# EAGLE library part BU5004-RG (library densikit)
8x8 Dot-Maxtrix BU5004-RG Akizukidensi I-00889 <http://akizukidenshi.com/catalog/g/gI-00889/> 200YEN
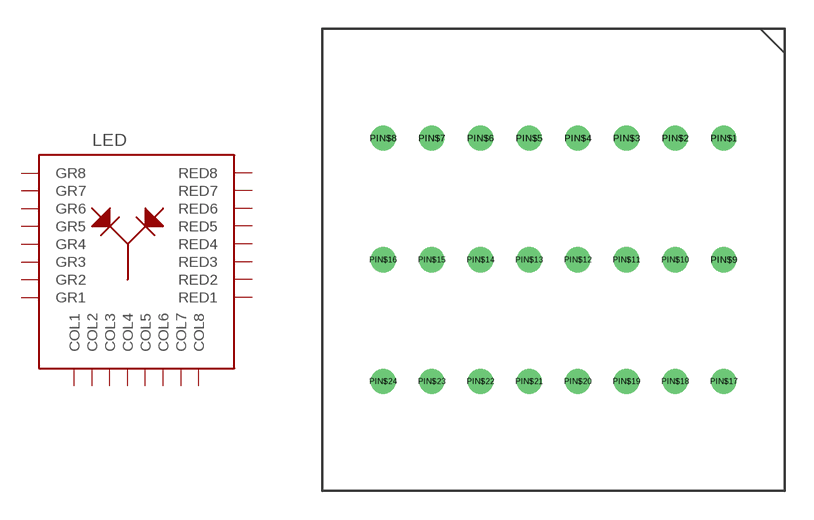
[diagram p3: symbol with the pads of LED_8X8_RG; footprint LED_8X8_RG]

Designator prefix LED

## BU5004-RG  [LED_8X8_RG]
PIN$1  GR2  pas
PIN$2  COL4  pas
PIN$3  COL3  pas
PIN$4  COL2  pas
PIN$5  GR5  pas
PIN$6  GR6  pas
PIN$7  COL1  pas
PIN$8  GR8  pas
PIN$9  RED1  pas
PIN$10  RED2  pas
PIN$11  RED3  pas
PIN$12  RED4  pas
PIN$13  RED5  pas
PIN$14  RED6  pas
PIN$15  RED7  pas
PIN$16  RED8  pas
PIN$17  GR1  pas
PIN$18  COL8  pas
PIN$19  GR3  pas
PIN$20  GR4  pas
PIN$21  COL7  pas
PIN$22  COL6  pas
PIN$23  COL5  pas
PIN$24  GR7  pas

## Footprint LED_8X8_RG (pad centres in mm)
drill 0.8: PIN$1 8.89,6.35; PIN$2 6.35,6.35; PIN$3 3.81,6.35; PIN$4 1.27,6.35; PIN$5 -1.27,6.35; PIN$6 -3.81,6.35; PIN$7 -6.35,6.35; PIN$8 -8.89,6.35; PIN$9 8.89,0; PIN$10 6.35,0; PIN$11 3.81,0; PIN$12 1.27,0; PIN$13 -1.27,0; PIN$14 -3.81,0; PIN$15 -6.35,0; PIN$16 -8.89,0; PIN$17 8.89,-6.35; PIN$18 6.35,-6.35; PIN$19 3.81,-6.35; PIN$20 1.27,-6.35; PIN$21 -1.27,-6.35; PIN$22 -3.81,-6.35; PIN$23 -6.35,-6.35; PIN$24 -8.89,-6.35